# Altium integrated library SK6812.IntLib: 1 symbol
Pins are listed as number, name and electrical type; pins without a type are passive.

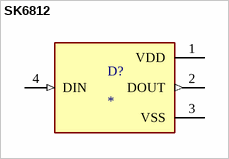
[diagram p0: symbol SK6812]

## SK6812
designator D?
SMD 5050 Full color RGB LED data transmission frequency up to 800Kbps, with 30 fps refresh rate, 5.00x5.00 mm; MF: Shenzhen LED Color Optoelectronic Inc.; MP: SK6812; Package: SMD-4 Shenzhen LED Color Optoelectronic Inc.; Value: *; Check_prices: https://www.snapeda.com/parts/SK6812/Shenzhen%20LED%20Color%20Optoelectronic%20Inc./view-part/554016/?ref=eda; Price: None; Availability: Unavailable; SnapEDA_Link: https://www.snapeda.com/parts/SK6812/Shenzhen%20LED%20Color%20Optoelectronic%20Inc./view-part/554016/?ref=snap
footprint LED_SK6812
pins: 1 VDD (power), 2 DOUT (out), 3 VSS (power), 4 DIN (in)